# Altium footprint library Support.PcbLib: 1 footprints
Each footprint in its own frame and in the unit in brackets; x right, y up, seen from the top. Pads: shape width x height; smd on the part's side, far side on the other; paste and mask are expansions set on the pad; w line width, h text height; cw(c..) or ccw(c..) is an arc to the next point about the centre after c.
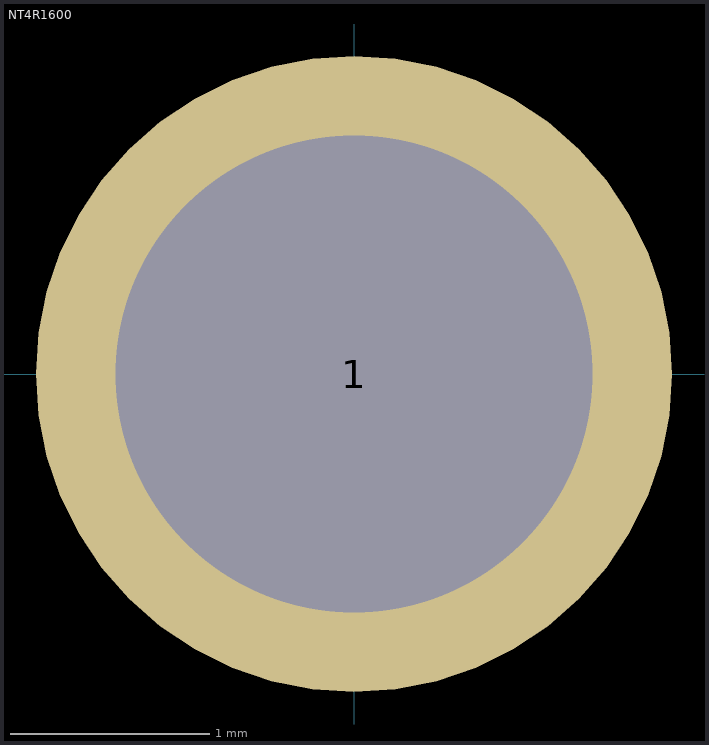
[diagram p0: the footprint, top view; thin cyan lines are the x and y axes]

## NT4R1600 [mm]
pads (1):
  round 3.2 hole 2.4: 1(0,0)
Top Paste:
  lines w0.3: -0.725,-1.256 cw(c0,0) -0.725,1.256 ; 0.725,-1.256 ccw(c0,0) 0.725,1.256
3D body "K3D-NT4-V1_JAE_Proprietary_1689522477.203.step": height 3.55, standoff -0.6, extent -1.989,-2 1.989,2